# Altium schematic symbol library 驱动2.SchLib: 2 symbols
Pins are listed as number, name and electrical type; pins without a type are passive.

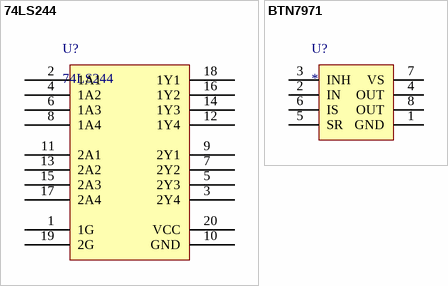
[diagram p0: symbols 74LS244 to BTN7971]

## 74LS244
designator U?
footprint SOP20 (（蒜米工坊）)
pins: 1 1G, 2 1A1, 3 2Y4, 4 1A2, 5 2Y3, 6 1A3, 7 2Y2, 8 1A4, 9 2Y1, 10 GND, 11 2A1, 12 1Y4, 13 2A2, 14 1Y3, 15 2A3, 16 1Y2, 17 2A4, 18 1Y1, 19 2G, 20 VCC

## BTN7971
designator U?
footprint DPAK127P1615X127-8N (TO, 8-Pads, Body 7.23x8.36mm (max), IPC Medium Density)
pins: 1 GND, 2 IN, 3 INH, 4 OUT, 5 SR, 6 IS, 7 VS, 8 OUT